# Altium integrated library PiRA-RTC-HAT-PCB.IntLib: 49 symbols (part 2 of 2)
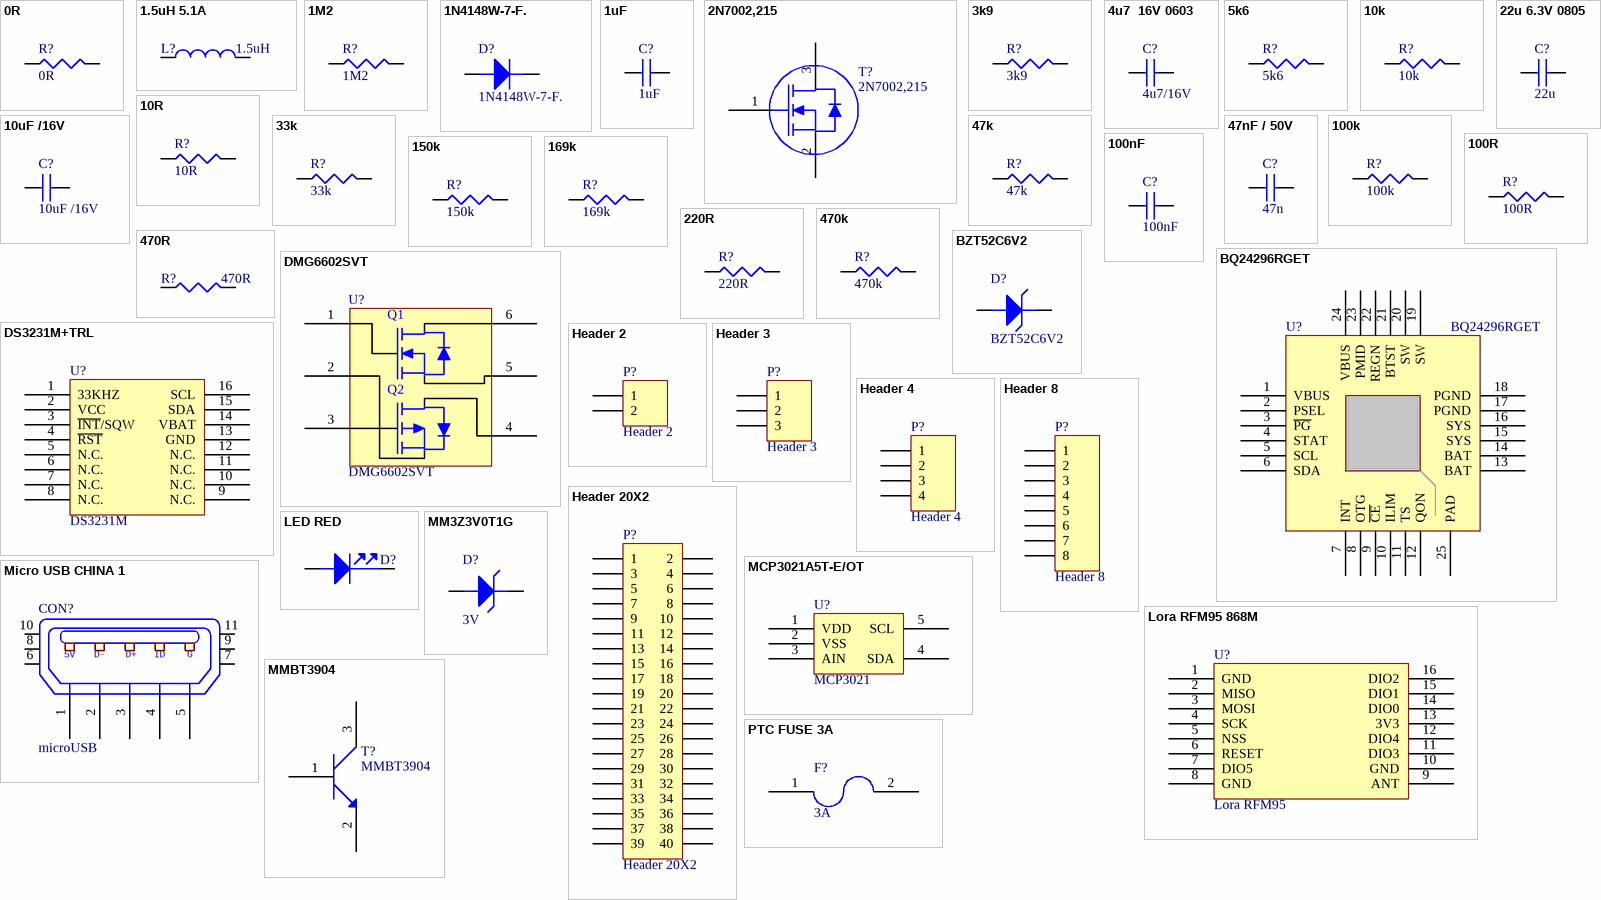
[diagram p2: symbols 0R to PTC FUSE 3A]

## LED RED
designator D?  (value not drawn)
BROADCOM LIMITED - HSMS-C190 - LED, RED, 10MCD, 626NM; LED Mounting: SMD; Forward Current If: 20; Forward Voltage: 2.1; Wavelength Typ: 626; Luminous Intensity: 10; Viewing Angle: 170°; Lens Shape: Rectangular; SVHC: No SVHC (17-Dec-2015)<!--FANDB--><div class="features-and-benefits-container"><div class="features-and-benefits-description"><span class="features-benefits-value">The HSMS-C190 is a HER SMD Chip LED with untinted/diffused lens, made of GaP. It is designed in an industry standard package 1.6 x 0.8mm footprint with 0.8mm profile. It is compatible with IR reflow solder processes. The small size and wide viewing angle make this LED prime choices for backlighting applications and front panel illumination especially where space is a premium.</span></div><div class="features-and-benefits-list"><ul class="features-and-benefits-list-list"><li class="features-and-benefits-list-item">Small size</li><li class="features-and-benefits-list-item">Industry standard footprint</li><li class="features-and-benefits-list-item">Compatible with IR solder</li><li class="features-and-benefits-list-item">Diffused optics</li><li class="features-and-benefits-list-item">-40 to 85; Supplier 1: Farnell; Manufacturer: BROADCOM LIMITED; Manufacturer Part Number: HSMS-C190; RoHS: YES; Stock 1: 7534; Pricing 1: 1=0.361, 10=0.256, 50=0.235, 100=0.106, 200=0.101 (GBP); LED Colour: Red; Bulb Size: -; Packaging: Cut Tape; Product Range: -; Automotive Qualification Standard: -; MSL: -; ComponentLink1URL: http://www.farnell.com/datasheets/313031.pdf; ComponentLink1Description: http://www.farnell.com/datasheets/313031.pdf; ComponentLink2URL: http://www.farnell.com/datasheets/1681524.pdf; ComponentLink2Description: http://www.farnell.com/datasheets/1681524.pdf; ComponentLink3URL: http://www.farnell.com/datasheets/2165483.pdf; ComponentLink3Description: http://www.farnell.com/datasheets/2165483.pdf; Supplier Part Number 1: 2497356
footprint LED0603
pins: 1 cathode, 2 ANODE

## Lora RFM95 868M
designator U?, comment Lora RFM95
RFM95 ULTRA-LONG RANGE TRANSCEIV; Manufacturer: Seeed Technology Co., Ltd; Manufacturer Part Number: 109990166; RF Family/Standard: General ISM < 1GHz; Protocol: LoRa™; Modulation: FSK, GFSK, GMSK, MSK, OOK; Frequency: 868MHz; Data Rate: 300kbps; Power - Output: 20dBm; Sensitivity: -148dBm; Serial Interfaces: SPI; Voltage - Supply: 1.8 V ~ 3.7 V; Current - Receiving: 12.1mA; Current - Transmitting: 120mA; Supplier 1: Digi-Key; RoHS: Not Applicable; Category: RF/IF and RFID; Stock 1: 211; Pricing 1: 1=7.09 (USD); Packaging: Bulk; Part Status: Active; Antenna Type: -; Memory Size: -; Mounting Type: Surface Mount; Operating Temperature: -20°C ~ 70°C; Package / Case: Module; ComponentLink1URL: https://github.com/SeeedDocument/RFM95-98_LoRa_Module/blob/master/RFM95_96_97_98_DataSheet.pdf; ComponentLink1Description: https://github.com/SeeedDocument/RFM95-98_LoRa_Module/blob/master/RFM95_96_97_98_DataSheet.pdf; Supplier Part Number 1: 1597-1488-ND
footprint Lora_module1
pins: 1 GND (oc), 2 MISO (oc), 3 MOSI (oc), 4 SCK (oc), 5 NSS (oc), 6 RESET (oc), 7 DIO5 (oc), 8 GND (oc), 9 ANT (oc), 10 GND (oc), 11 DIO3 (oc), 12 DIO4 (oc), 13 3V3 (oc), 14 DIO0 (oc), 15 DIO1 (oc), 16 DIO2 (oc)

## MCP3021A5T-E/OT
designator U?, comment MCP3021
MICROCHIP - MCP3021A5T-E/OT - 10BIT ADC, I2C, 1CH, SMD, SOT-23A-5; Resolution (Bits): 10; Sampling Rate: 22.3; Supply Voltage Type: Single; Supply Voltage Min: 2.7; Supply Voltage Max: 5.5; ADC / DAC Case Style: SOT-23; No. of Pins: 5; Input Channel Type: Single Ended; Data Interface: I2; Product Range: Single 10; Automotive Qualification Standard: AEC-Q100; SVHC: No SVHC (17-Dec-2015); Base Number: 3021; Conversion Time: 45.4; Linearity Error ADC / DAC +: 1; Supply Current: 175; Supply Voltage Range: 2.7V to 5.5; Voltage Regulator Type: ADC<!--FANDB--><div class="features-and-benefits-container"><div class="features-and-benefits-description"><span class="features-benefits-value">The MCP3021A5T-E/OT is a 10-bit low power Analogue-to-digital Converter (ADC). This device provides one/single-ended input with very low power consumption. The MCP3021 provides a low maximum conversion current and standby current of 250µA and 1µA respectively. Communication to the MCP3021 is performed using a 2; Supplier 1: Farnell; Manufacturer: MICROCHIP; Manufacturer Part Number: MCP3021A5T-E/OT; RoHS: YES; Stock 1: 8474; Pricing 1: 1=0.926, 10=0.855, 25=0.759, 50=0.716, 100=0.648 (GBP); Operating Temperature Min: -40; Operating Temperature Max: 125; Packaging: Cut Tape; MSL: MSL 1 - Unlimited; IC Case Style: SOT-23; Linearity Error ADC / DAC -: 1; No. of Bits: 10; No. of Channels: 1; Operating Temperature Range: -40°C to +125; Supply Voltage Range - Analogue: 2.7V to 5.5; Termination Type: Surface Mount Device; ComponentLink1URL: http://www.farnell.com/datasheets/2124926.pdf; ComponentLink1Description: http://www.farnell.com/datasheets/2124926.pdf; ComponentLink2URL: http://www.farnell.com/cad/1545509.zip; ComponentLink2Description: http://www.farnell.com/cad/1545509.zip; ComponentLink3URL: http://www.farnell.com/datasheets/2338016.pdf; ComponentLink3Description: http://www.farnell.com/datasheets/2338016.pdf; Supplier Part Number 1: 1332097
footprint SOT23127P600-8N - duplicate
pins: 1 VDD (oc), 2 VSS (oc), 3 AIN (oc), 4 SDA (oc), 5 SCL (oc)

## Micro USB CHINA 1
designator CON?, comment microUSB  (no BOM)
footprint microUSB-CHINA
pins: 1 P1, 2 P2, 3 P3, 4 P4, 5 P5, 6, 7, 8, 9, 10, 11
text: 5V; D-; D+; ID; G

## MM3Z3V0T1G
designator D?, comment 3V
ON SEMICONDUCTOR - MM3Z3V0T1G - ZENER DIODE, 200MW, 3V, SOD-323; Zener Voltage Vz Typ: 3; Power Dissipation Pd: 300; Zener Tolerance ±: 5%; No. of Pins: 2; Product Range: MM3Z3 Series; SVHC: No SVHC (07-Jul-2017); Supplier 1: Farnell; Manufacturer: ON SEMICONDUCTOR; Manufacturer Part Number: MM3Z3V0T1G; RoHS: YES; Stock 1: 6591; Pricing 1: 5=0.126, 50=0.0544, 250=0.0443, 500=0.0288, 1500=0.0274 (GBP); Diode Case Style: SOD-323; Operating Temperature Max: 150; Packaging: Cut Tape; Automotive Qualification Standard: -; MSL: MSL 1 - Unlimited<!--FANDB--><div class="features-and-benefits-container"><div class="features-and-benefits-desc-container"><span class="features-and-benefits-container-desc">Zener Single Diode, 3 V, 300 mW, SOD-323, 5 %, 2 Pins, 150 °C</span></div></div>; ComponentLink1URL: http://www.farnell.com/datasheets/1876691.pdf; ComponentLink1Description: http://www.farnell.com/datasheets/1876691.pdf; ComponentLink2URL: http://www.farnell.com/datasheets/2306645.pdf; ComponentLink2Description: http://www.farnell.com/datasheets/2306645.pdf; Supplier Part Number 1: 2463510
footprint SOD-323 2L
pins: 1 cathode, 2 ANODE

## MMBT3904
designator T?
ON SEMICONDUCTOR/FAIRCHILD - MMBT3904 - TRANSISTOR, NPN, SOT-23; Collector Emitter Voltage V(br)ceo: 40; Transition Frequency ft: 300; Power Dissipation Pd: 350; DC Collector Current: 200; No. of Pins: 3; SVHC: No SVHC (15-Jun-2015); Current Ic hFE: 10; Device Marking: BT3904; Hfe Min: 100; No. of Transistors: 1; Noise Factor Max: 5; Voltage Vcbo: 60V<!--FANDB--><div class="features-and-benefits-container"><div class="features-and-benefits-description"><span class="features-benefits-value">The MMBT3904 from Fairchild is a surface mount, NPN general purpose amplifier in SOT-23 package. This device is suitable for general purpose amplification and switching applications.</span></div><div class="features-and-benefits-list"><ul class="features-and-benefits-list-list"><li class="features-and-benefits-list-item">Collector to emitter voltage (Vce) of 40V</li><li class="features-and-benefits-list-item">Collector to emitter saturation voltage of 300mV at 50mA collector current</li><li class="features-and-benefits-list-item">Power dissipation of 350mW</li><li class="features-and-benefits-list-item">DC collector current of 200mA</li><li class="features-and-benefits-list-item">DC current gain of 30 at Ic=100mA</li><li class="features-and-benefits-list-item">Operating junction temperature range from -55°C to 150; Supplier 1: Farnell; Manufacturer: ON SEMICONDUCTOR/FAIRCHILD; Manufacturer Part Number: MMBT3904; RoHS: YES; Stock 1: 54090; Pricing 1: 5=0.121, 50=0.043, 250=0.0401, 500=0.0261, 1500=0.0256 (GBP); Transistor Polarity: NPN; DC Current Gain hFE: 300; Transistor Case Style: SOT-23; Operating Temperature Max: 150; Product Range: -; Automotive Qualification Standard: -; MSL: MSL 1 - Unlimited; Collector Emitter Saturation Voltage Vce(on): 200; Continuous Collector Current Ic Max: 200; Current Ic Continuous a Max: 200; Gain Bandwidth ft Min: 300; Gain Bandwidth ft Typ: 300; Operating Temperature Min: -55; Operating Temperature Range: -55°C to +150; Packaging: Cut Tape; Power Dissipation Ptot Max: 350; SMD Marking: 1; ComponentLink1URL: http://www.farnell.com/datasheets/2304127.pdf; ComponentLink1Description: http://www.farnell.com/datasheets/2304127.pdf; ComponentLink2URL: http://www.farnell.com/datasheets/1942444.pdf; ComponentLink2Description: http://www.farnell.com/datasheets/1942444.pdf; Supplier Part Number 1: 9846727
footprint SOT23127P600-8N
pins: 1 (oc), 2 (oc), 3 (oc)

## PTC FUSE 3A
designator F?, comment 3A
LITTELFUSE - MINISMDC150F/24-2 - POLYSWITCH, SMD, 1812, 1.5A; Supplier 1: Farnell; Manufacturer: LITTELFUSE; Manufacturer Part Number: MINISMDC150F/24-2; RoHS: YES; Stock 1: 9256; Pricing 1: 1=0.463, 50=0.382, 100=0.327, 250=0.302, 500=0.256, 1000=0.254, 5000=0.253, 10000=0.251 (GBP); ComponentLink1URL: http://www.farnell.com/datasheets/2363925.pdf; ComponentLink1Description: http://www.farnell.com/datasheets/2363925.pdf; ComponentLink2URL: http://www.farnell.com/datasheets/2282569.pdf; ComponentLink2Description: http://www.farnell.com/datasheets/2282569.pdf; Supplier Part Number 1: 1345929
footprint Chip2PinSM127P600-8N
pins: 1 (oc), 2 (oc)

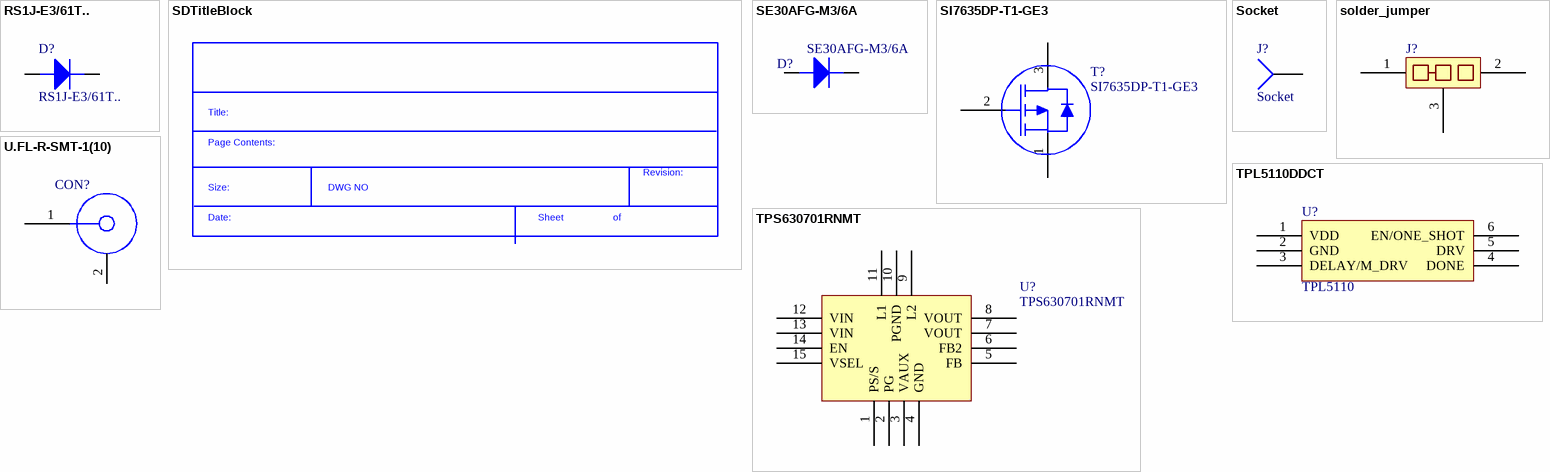
[diagram p1: symbols RS1J-E3/61T.. to U.FL-R-SMT-1(10)]

## RS1J-E3/61T..
designator D?
VISHAY - RS1J-E3/61T.. - DIODE, FAST, 1A, 600V, SMD; Repetitive Reverse Voltage Vrrm Max: 600; Forward Current If(AV): 1; Diode Configuration: Single; Forward Voltage VF Max: 1.3; Reverse Recovery Time trr Max: 250; Forward Surge Current Ifsm Max: 30; Diode Case Style: DO-214; No. of Pins: 2 Pin; Product Range: RS1; SVHC: No SVHC (15-Jun-2015); Diode Type: Fast Recovery; External Depth: 2.79; External Length / Height: 2.29; External Width: 5.28; Junction Temperature Tj Max: 150; Supplier 1: Farnell; Manufacturer: VISHAY; Manufacturer Part Number: RS1J-E3/61T..; RoHS: YES; Stock 1: 4705; Pricing 1: 10=0.164, 100=0.111, 200=0.093, 500=0.0847, 1000=0.083, 3000=0.0813, 9000=0.0796, 30000=0.0779 (GBP); Operating Temperature Max: 150; Packaging: Cut Tape; Automotive Qualification Standard: -; Alternate Case Style: DO-214; Current Ifsm: 30; Forward Current If Max: 1; Forward Voltage: 1.3; Operating Temperature Min: -55; Operating Temperature Range: -55°C to +150; Tape Width: 12mm<!--FANDB--><div class="features-and-benefits-container"><div class="features-and-benefits-desc-container"><span class="features-and-benefits-container-desc">Fast / Ultrafast Diode, 600 V, 1 A, Single, 1.3 V, 250 ns, 30 A</span></div><div class="features-and-benefits-description"><span class="features-benefits-value">The RS1J-E3/5AT is a surface-mount Fast Switching Rectifier with solderable matte tin-plated terminals. It is suitable for use in fast switching rectification of power supply, inverters, converters and freewheeling diodes.</span></div><div class="features-and-benefits-list"><ul class="features-and-benefits-list-list"><li class="features-and-benefits-list-item">Colour band denotes cathode end</li><li class="features-and-benefits-list-item">Low-profile package</li><li class="features-and-benefits-list-item">Ideal for automated placement</li><li class="features-and-benefits-list-item">Glass-passivated pallet chip junction</li><li class="features-and-benefits-list-item">Fast switching for high efficiency</li><li class="features-and-benefits-list-item">High forward surge capability</li><li class="features-and-benefits-list-item">Meets MSL level 1 as per J-STD-020, LF maximum peak of 260°C</li><li class="features-and-benefits-list-item">AEC-Q101 qualified</li><li class="features-and-benefits-list-item">UL94V-0 Flammability rating</li></ul></div><div class="features-and-benefits-applications"><ul class="features-and-benefits-value"><li class="features-and-benefits-list-item">Power Management</li><li class="features-and-benefits-list-item">Consumer Electronics</li><li class="features-and-benefits-list-item">Commercial</li><li class="features-and-benefits-list-item">Communications & Networking</li><li class="features-and-benefits-list-item">Automotive</li></ul></div></div>; ComponentLink1URL: http://www.vishay.com/docs/88869/packagin.pdf; ComponentLink1Description: http://www.vishay.com/docs/88869/packagin.pdf; ComponentLink2URL: http://www.vishay.com/doc?88707; ComponentLink2Description: http://www.vishay.com/doc?88707; ComponentLink3URL: http://www.farnell.com/datasheets/2244878.pdf; ComponentLink3Description: http://www.farnell.com/datasheets/2244878.pdf; Supplier Part Number 1: 9550143
footprint SMC/DO-214AC
pins: 1 cathode, 2 ANODE

## SDTitleBlock
designator *??  (value not drawn)  (graphical)
text: Title:; Page Contents:; Revision:; Size:; DWG NO; Date:; Sheet; of

## SE30AFG-M3/6A
designator D?
VISHAY - SE30AFG-M3/6A - RECTIFIER, ESD, 400V, 3A, DO-221AC; Repetitive Reverse Voltage Vrrm Max: 400; Forward Current If(AV): 3; Diode Configuration: Single; Forward Voltage VF Max: 1.1; Reverse Recovery Time trr Max: 1.5; Forward Surge Current Ifsm Max: 40; Diode Case Style: DO-221; No. of Pins: 2; Product Range: SE30; Diode Type: Standard Recovery; Supplier 1: Farnell; Manufacturer: VISHAY; Manufacturer Part Number: SE30AFG-M3/6A; RoHS: YES; Stock 1: 13984; Pricing 1: 1=0.306, 25=0.0765, 100=0.0753, 250=0.0729, 500=0.072, 1000=0.0654 (GBP); Operating Temperature Max: 175; Packaging: Each; Automotive Qualification Standard: -; MSL: MSL 1 - Unlimited; Operating Temperature Min: -55°C<!--FANDB--><div class="features-and-benefits-container"><div class="features-and-benefits-desc-container"><span class="features-and-benefits-container-desc">Standard Recovery Diode, 400 V, 3 A, Single, 1.1 V, 1.5 µs, 40 A</span></div><div class="features-and-benefits-description"><span class="features-benefits-value">The SE30AFG-M3/6A is a surface-mount ESD Capability Rectifier with matte tin-plated solderable leads. It is suitable for use in general-purpose, polarity protection and rail-to-rail protection.</span></div><div class="features-and-benefits-list"><ul class="features-and-benefits-list-list"><li class="features-and-benefits-list-item">Oxide planar chip junction</li><li class="features-and-benefits-list-item">Low forward voltage drop, low leakage current</li><li class="features-and-benefits-list-item">Very low profile - Typical height of 0.95; ComponentLink1URL: http://www.farnell.com/datasheets/2049981.pdf; ComponentLink1Description: http://www.farnell.com/datasheets/2049981.pdf; Supplier Part Number 1: 2313878
footprint SODFL127P600-8N
pins: 1 cathode, 2 ANODE

## SI7635DP-T1-GE3
designator T?
MOSFET P-CH 20V 40A PPAK SO-8; Manufacturer: Vishay Siliconix; Rds On Max: 4.9mR; Input Capacitance: 4.595nF; Nominal Vgs: -2.2V; Rise Time: 10ns; Max Power Dissipation: 54W; Gate to Source Voltage (Vgs): 16V; Fall Time: 13ns; Turn-Off Delay Time: 65ns; Number of Elements: 1; Power Dissipation: 5W; Element Configuration: Single; Drain to Source Breakdown Voltage: -20V; Turn-On Delay Time: 19ns; Supplier 1: Farnell; Manufacturer Part Number: SI7635DP-T1-GE3; Stock 1: 527; Pricing 1: 1=1.2, 25=0.99, 50=0.872, 100=0.754, 250=0.701, 500=0.648 (EUR); Mount: Surface Mount; Number of Pins: 8; Weight: 0.01787oz; Min Operating Temperature: -55°C; Max Operating Temperature: 150°C; Package Quantity: 1; Packaging: Tape and Reel; Continuous Drain Current (ID): 40A; Drain to Source Voltage (Vdss): 20V; Drain to Source Resistance: 4.9mR; Threshold Voltage: -2.2V; Number of Channels: 1; On-State Resistance: 4.9mR; Radiation Hardening: No; REACH SVHC: Unknown; Lead Free: Lead Free; ComponentLink1URL: https://datasheet.ciiva.com/13044/si7635dp-244446-13044984.pdf; ComponentLink1Description: https://datasheet.ciiva.com/13044/si7635dp-244446-13044984.pdf; ComponentLink2URL: https://datasheet.ciiva.com/7235/1750693-7235731.pdf; ComponentLink2Description: https://datasheet.ciiva.com/7235/1750693-7235731.pdf; ComponentLink3URL: https://datasheet.ciiva.com/6387/si7635dp-6387121.pdf; ComponentLink3Description: https://datasheet.ciiva.com/6387/si7635dp-6387121.pdf; ComponentLink4URL: https://datasheet.ciiva.com/16486/si7635dp-16486506.pdf; ComponentLink4Description: https://datasheet.ciiva.com/16486/si7635dp-16486506.pdf; ComponentLink5URL: https://datasheet.ciiva.com/11159/si7635dp-11159846.pdf; ComponentLink5Description: https://datasheet.ciiva.com/11159/si7635dp-11159846.pdf; ComponentLink6URL: https://datasheet.ciiva.com/6387/si7635dp-6387127.pdf; ComponentLink6Description: https://datasheet.ciiva.com/6387/si7635dp-6387127.pdf; Supplier Part Number 1: 1781668
footprint PG-TSDSON-8
pins: 1 (oc), 2 (oc), 3 (oc)

## Socket
designator J?  (no BOM)
LatestRevisionDate: 17-Jul-2002; LatestRevisionNote: Re-released for DXP Platform.; Publisher: Altium Limited
footprint PIN1 (Connector; Socket)
signal-integrity model Connector
pins: 1

## solder_jumper
designator J?  (value not drawn)  (no BOM)
footprint Solder Jumper Normal Close
pins: 1 (oc), 2 (oc), 3 (oc)

## TPL5110DDCT
designator U?, comment TPL5110
TEXAS INSTRUMENTS - TPL5110DDCT - NANO TIMER, SINGLE, 5.5V, SOT-23-6; Supply Voltage Min: 1.8; Supply Voltage Max: 5.5; Digital IC Case: SOT-23; No. of Pins: 6; SVHC: No SVHC (15-Jun-2015)<!--FANDB--><div class="features-and-benefits-container"><div class="features-and-benefits-description"><span class="features-benefits-value">The TPL5110DDCT is an Ultralow Power Timer with MOS driver and MOSFET power ON ideal for power gating in duty cycled or battery powered applications. Consuming only 35nA, the TPL5110 can enable the power supply line and drastically reduce the overall system stand by current during the sleep time. Such power savings enable the use of significantly smaller batteries making it well suited for energy harvesting or wireless sensor applications. The TPL5110 provides selectable timing intervals from 100ms to 7200s and is designed for power gating applications. In addition, the TPL5110 has an unique one-shot feature where the timer will only power the MOSFET for one cycle.</span></div><div class="features-and-benefits-list"><ul class="features-and-benefits-list-list"><li class="features-and-benefits-list-item">35nA Typical current consumption at 2.5V</li><li class="features-and-benefits-list-item">100ms to 7200s Selectable time intervals</li><li class="features-and-benefits-list-item">1; Supplier 1: Farnell; Manufacturer: TEXAS INSTRUMENTS; Manufacturer Part Number: TPL5110DDCT; RoHS: YES; Stock 1: 1212; Pricing 1: 1=1, 10=0.703, 100=0.569, 250=0.528, 500=0.474, 1000=0.325 (GBP); Frequency: -; Operating Temperature Min: -40; Operating Temperature Max: 105; Packaging: Each; Product Range: -; MSL: MSL 1 - Unlimited; ComponentLink1URL: http://www.ti.com/general/docs/lit/getliterature.tsp?genericPartNumber=TPL5110&amp;&amp;fileType=pdf; ComponentLink1Description: http://www.ti.com/general/docs/lit/getliterature.tsp?genericPartNumber=TPL5110&amp;&amp;fileType=pdf; ComponentLink2URL: http://www.farnell.com/datasheets/2037314.pdf; ComponentLink2Description: http://www.farnell.com/datasheets/2037314.pdf; Supplier Part Number 1: 2471145
footprint SOT236
pins: 1 VDD (oc), 2 GND (oc), 3 DELAY/M_DRV (oc), 4 DONE (oc), 5 DRV (oc), 6 EN/ONE_SHOT (oc)

## TPS630701RNMT
designator U?
TEXAS INSTRUMENTS - TPS630701RNMT - DC/DC CONV, BUCK-BOOST, 2.4MHZ, VQFN-15; Input Voltage Min: 2; Input Voltage Max: 16; DC / DC Converter IC Case: VQFN; No. of Pins: 15; Output Voltage Nom.: 5; Switching Frequency: 2.4; SVHC: No SVHC (17-Dec-2015; Supplier 1: Farnell; Manufacturer: TEXAS INSTRUMENTS; Manufacturer Part Number: TPS630701RNMT; RoHS: YES; Stock 1: 456; Pricing 1: 1=2.23, 10=1.87, 100=1.7, 250=1.56, 500=1.47, 1000=1.21 (GBP); Topology: Buck-Boost; Output Current: 2; Operating Temperature Max: 125; Packaging: Cut Tape; Product Range: -; Automotive Qualification Standard: -; MSL: MSL 1 - Unlimited; ComponentLink1URL: http://www.ti.com/general/docs/lit/getliterature.tsp?genericPartNumber=TPS63070&fileType=pdf; ComponentLink1Description: http://www.ti.com/general/docs/lit/getliterature.tsp?genericPartNumber=TPS63070&fileType=pdf; Supplier Part Number 1: 2643432
footprint VQFN TPS
pins: 1 PS/S (oc), 2 PG (oc), 3 VAUX (oc), 4 GND (oc), 5 FB (oc), 6 FB2 (oc), 7 VOUT (oc), 8 VOUT (oc), 9 L2 (oc), 10 PGND (oc), 11 L1 (oc), 12 VIN (oc), 13 VIN (oc), 14 EN (oc), 15 VSEL (oc)

## U.FL-R-SMT-1(10)
designator CON?  (value not drawn)
HIROSE(HRS) - U.FL-R-SMT-1(10) - RF COAXIAL, U.FL, STRAIGHT JACK, 50OHM; Connector Type: U.FL Coaxial; Coaxial Termination: Surface Mount Vertical; Impedance: 50; Frequency Max: 6; Connector Mounting: PCB Mount; Supplier 1: Farnell; Manufacturer: HIROSE(HRS); Manufacturer Part Number: U.FL-R-SMT-1(10); RoHS: YES; Stock 1: 118146; Pricing 1: 1=0.5, 25=0.49, 100=0.468, 150=0.446, 250=0.424, 1000=0.394 (GBP); Connector Body Style: Straight Jack; Coaxial Cable Types: -; Contact Material: Brass; Contact Plating: Gold Plated Contacts; Product Range: -; Operating Temperature Max: 90; Operating Temperature Min: -40°C<!--FANDB--><div class="features-and-benefits-container"><div class="features-and-benefits-description"><span class="features-benefits-value">The U. FL-R-SMT-1(10) from Hirose is a straight ultra miniature SMT coaxial receptacle. These connectors offer high frequency performance from DC to 6GHz and impedance of 50 ohm to meet the frequency requirements of a wide variety of miniature equipments.</span></div><div class="features-and-benefits-list"><ul class="features-and-benefits-list-list"><li class="features-and-benefits-list-item">Phosphor bronze with gold plated contacts</li><li class="features-and-benefits-list-item">LCP insulator</li><li class="features-and-benefits-list-item">VSWR of 1.3max at 0 to 3GHz</li><li class="features-and-benefits-list-item">Operating temperature range from -40°C to 90; ComponentLink1URL: http://www.farnell.com/cad/2110742.pdf; ComponentLink1Description: http://www.farnell.com/cad/2110742.pdf; ComponentLink2URL: http://bcove.me/8op6hfnt; ComponentLink2Description: http://bcove.me/8op6hfnt; ComponentLink3URL: http://www.farnell.com/datasheets/1947917.pdf; ComponentLink3Description: http://www.farnell.com/datasheets/1947917.pdf; ComponentLink4URL: http://www.farnell.com/cad/2115175.stp; ComponentLink4Description: http://www.farnell.com/cad/2115175.stp; Supplier Part Number 1: 1688077
footprint uFL SMD connector
pins: 1 (oc), 2 (oc)